# EAGLE library part W5500 (library vtgs)
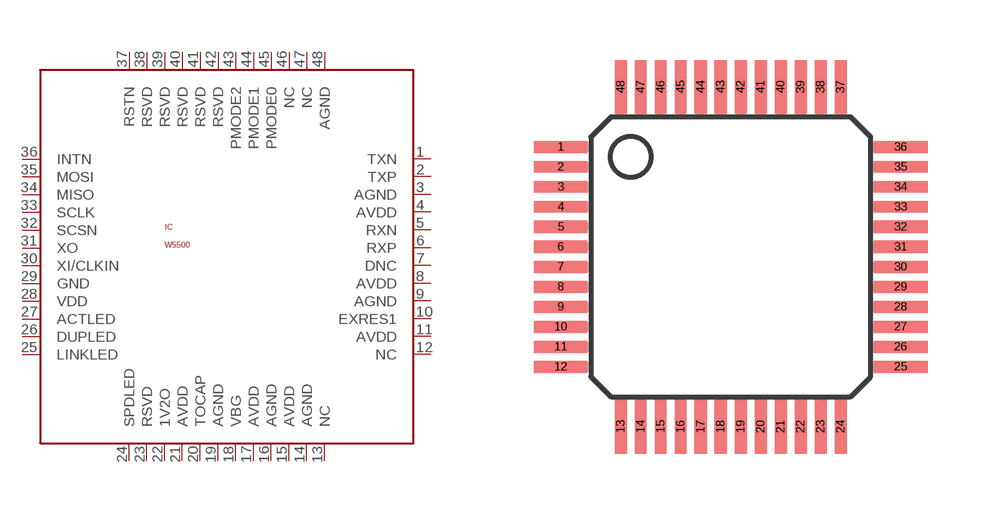
[diagram p4: symbol with the pads of LQFP48; footprint LQFP48]

Designator prefix IC

## W5500  [LQFP48]
1  TXN
2  TXP
3  AGND
4  AVDD
5  RXN
6  RXP
7  DNC
8  AVDD
9  AGND
10  EXRES1
11  AVDD
12  NC
13  NC
14  AGND
15  AVDD
16  AGND
17  AVDD
18  VBG
19  AGND
20  TOCAP
21  AVDD
22  1V2O
23  RSVD
24  SPDLED
25  LINKLED
26  DUPLED
27  ACTLED
28  VDD
29  GND
30  XI/CLKIN
31  XO
32  SCSN
33  SCLK
34  MISO
35  MOSI
36  INTN
37  RSTN
38  RSVD
39  RSVD
40  RSVD
41  RSVD
42  RSVD
43  PMODE2
44  PMODE1
45  PMODE0
46  NC
47  NC
48  AGND

## Footprint LQFP48 (pad centres in mm)
smd 1.35 x 0.3: 1 -4.25,2.75; 2 -4.25,2.25; 3 -4.25,1.75; 4 -4.25,1.25; 5 -4.25,0.75; 6 -4.25,0.25; 7 -4.25,-0.25; 8 -4.25,-0.75; 9 -4.25,-1.25; 10 -4.25,-1.75; 11 -4.25,-2.25; 12 -4.25,-2.75; 25 4.25,-2.75; 26 4.25,-2.25; 27 4.25,-1.75; 28 4.25,-1.25; 29 4.25,-0.75; 30 4.25,-0.25; 31 4.25,0.25; 32 4.25,0.75; 33 4.25,1.25; 34 4.25,1.75; 35 4.25,2.25; 36 4.25,2.75
smd 0.3 x 1.35: 13 -2.75,-4.25; 14 -2.25,-4.25; 15 -1.75,-4.25; 16 -1.25,-4.25; 17 -0.75,-4.25; 18 -0.25,-4.25; 19 0.25,-4.25; 20 0.75,-4.25; 21 1.25,-4.25; 22 1.75,-4.25; 23 2.25,-4.25; 24 2.75,-4.25; 37 2.75,4.25; 38 2.25,4.25; 39 1.75,4.25; 40 1.25,4.25; 41 0.75,4.25; 42 0.25,4.25; 43 -0.25,4.25; 44 -0.75,4.25; 45 -1.25,4.25; 46 -1.75,4.25; 47 -2.25,4.25; 48 -2.75,4.25